# Altium schematic symbol library PCB-Design-of-the-8051.SchLib: 3 symbols
Pins are listed as number, name and electrical type; pins without a type are passive.

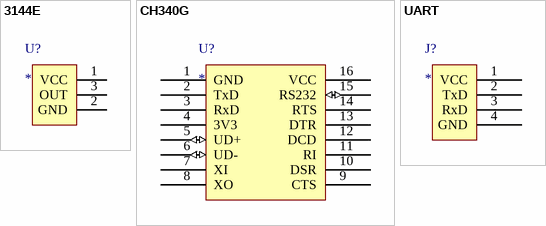
[diagram p0: symbols 3144E to UART]

## 3144E
designator U?
开关式霍尔传感器
footprint TO-92A (Footprint not found)
pins: 1 VCC, 2 GND, 3 OUT

## CH340G
designator U?
footprint SOP16 (Footprint not found)
pins: 1 GND (power), 2 TxD, 3 RxD, 4 3V3, 5 UD+ (io), 6 UD- (io), 7 XI, 8 XO, 9 CTS, 10 DSR, 11 RI, 12 DCD, 13 DTR, 14 RTS, 15 RS232 (io), 16 VCC (power)

## UART
designator J?
footprint SIP4-2.54
pins: 1 VCC, 2 TxD, 3 RxD, 4 GND